# EAGLE library part 66201211122 (library Wire_to_Board_Connectors_rev15d)
WR-MPC3 3.00mm Male Single Row Vertical Header, 12 Pins=>Code : Con_WTB_MPC3_1_PCB_66201211122 <http://katalog.we-online.de/media/thumbs2/eican/thb_Con_WTB_MPC3_1_PCB_6620xx11122_pf2.jpg> Details see: http://katalog.we-online.de/en/em/662_0xx_111_22 Created 2014-06-06, Karrer Zheng 2014 (C) Würth Elektronik
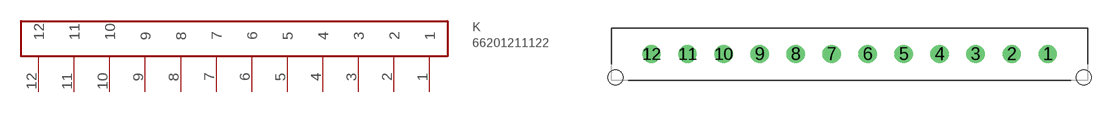
[diagram p359: symbol with the pads of 66201211122; footprint 66201211122]

Designator prefix K

## 66201211122  [66201211122]
1  1
2  2
3  3
4  4
5  5
6  6
7  7
8  8
9  9
10  10
11  11
12  12

## Footprint 66201211122 (pad centres in mm)
WR-MPC3 3.00mm Male Single Row Vertical Header, 12 Pins
drill 1.02: 1 16.5,0; 2 13.5,0; 3 10.5,0; 4 7.5,0; 5 4.5,0; 6 1.5,0; 7 -1.5,0; 8 -4.5,0; 9 -7.5,0; 10 -10.5,0; 11 -13.5,0; 12 -16.5,0
hole 1.27 at 19.5,-1.96
hole 1.27 at -19.5,-1.96